# Altium schematic symbol library DIODE TVS 3.5 VWM 4 Channel.SchLib: 1 symbol
Pins are listed as number, name and electrical type; pins without a type are passive.

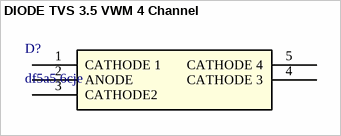
[diagram p0: symbol DIODE TVS 3.5 VWM 4 Channel]

## DIODE TVS 3.5 VWM 4 Channel
designator D?, comment df5a5.6cje
- Clamp - Ipp Tvs Diode Surface Mount ESV 4 Channel; Mfr_Name: Toshiba Electronic Devices & Storage Co.; Manufacturer_Part_Number: df5a5.6cje(te85l; Type: DEV; Copyright: Copyright (C) 2021 Ultra Librarian. All rights reserved.; Digi-Key_Part_Number_1: DF5A5.6CJE(TE85LF)TR-ND; Digi-Key_Part_Number_2: DF5A5.6CJE(TE85LF)CT-ND; Digi-Key_Part_Number_3: DF5A5.6CJE(TE85LF)DKR-ND; RefDes: RefDes; Supplier 1: Digi-Key; Supplier Part Number 1: DF5A5.6CJE,LMCT-ND
footprint ESV_TOS-L
pins: 1 CATHODE 1, 2 ANODE, 3 CATHODE2, 4 CATHODE 3, 5 CATHODE 4